# Altium schematic symbol library SCH - POWER - LINEAR VREG - AD ADP7182 TSOT5 FIXED.SchLib: 1 symbol
Pins are listed as number, name and electrical type; pins without a type are passive.

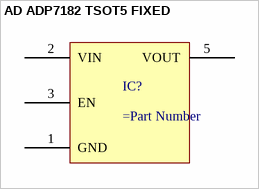
[diagram p0: symbol AD ADP7182 TSOT5 FIXED]

## AD ADP7182 TSOT5 FIXED
designator IC?
pins: 1 GND, 2 VIN, 3 EN, 5 VOUT